# Altium footprint library Footprint.PcbLib: 1 footprints
Each footprint in its own frame and in the unit in brackets; x right, y up, seen from the top. Pads: shape width x height; smd on the part's side, far side on the other; paste and mask are expansions set on the pad; w line width, h text height; cw(c..) or ccw(c..) is an arc to the next point about the centre after c.
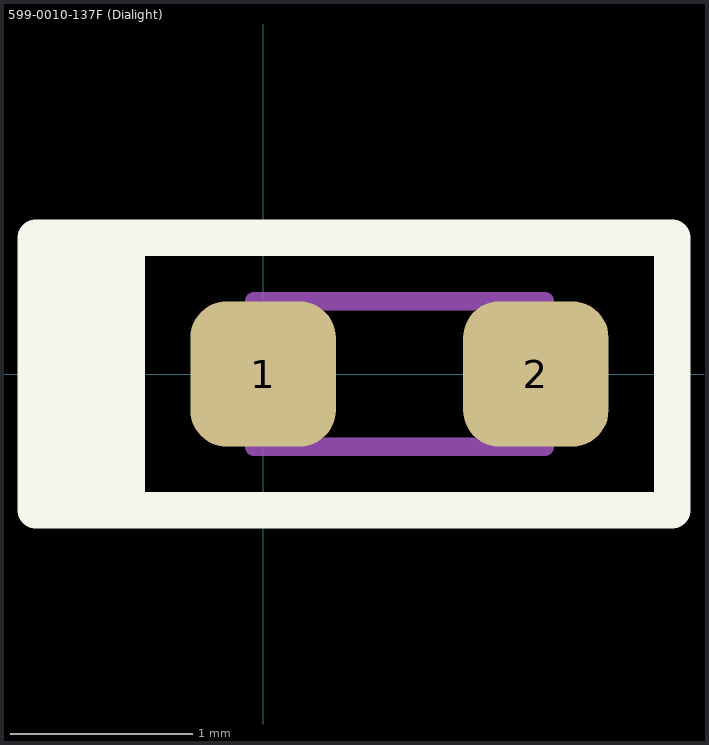
[diagram p0: the footprint, top view; thin cyan lines are the x and y axes]

## 599-0010-137F (Dialight) [mm] "Chip LED, 2-Leads, Body 1.60x0.80 mm, IPC Medium Density"
height 0.4
pads (2):
  rrect50% 0.8x0.8 smd mask+0.05: 1(0,0) 2(1.5,0)
Top Overlay:
  rectangle: -1.25,-0.75 -0.75,0.75
  lines w0.2: -0.75,-0.75 -1.25,-0.75 -1.25,0.75 -0.75,0.75 ; -0.75,-0.75 -0.75,0.75 ; -0.75,-0.75 2.25,-0.75 2.25,0.75 -0.75,0.75
Top Pattern:
  lines w0.1: 0.25,-0.4 0.25,0.4 ; 1.25,-0.4 1.25,0.4 ; -0.05,-0.4 -0.05,0.4 1.55,0.4 1.55,-0.4 -0.05,-0.4
  text ".Designator" at -1.35,1.3 h1.52
Courtyard:
  lines w0.1: -0.7,-0.7 -0.7,0.7 2.2,0.7 2.2,-0.7 -0.7,-0.7
3D body "599-0010-137F.step": height 0.4, standoff 0, extent -0.05,-0.4 1.55,0.4